# Altium footprint library charger.PcbLib: 22 footprints (part 2 of 2)
Each footprint in its own frame and in the unit in brackets; x right, y up, seen from the top. Pads: shape width x height; smd on the part's side, far side on the other; paste and mask are expansions set on the pad; w line width, h text height; cw(c..) or ccw(c..) is an arc to the next point about the centre after c.
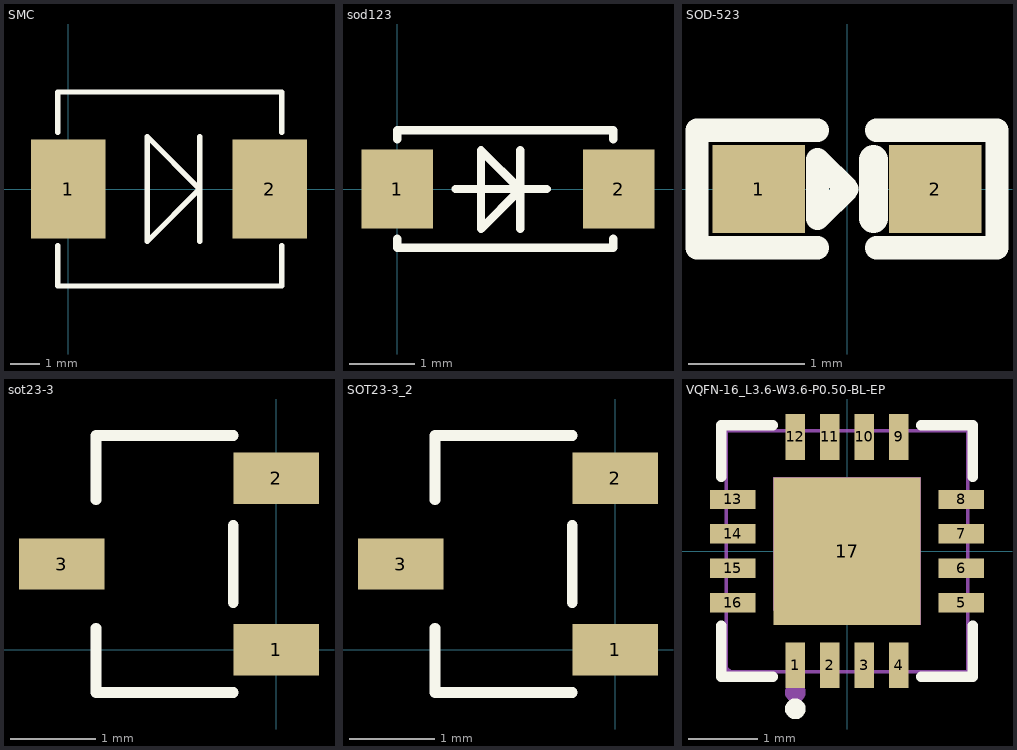
[diagram p1: the footprints below, top view; thin cyan lines are the x and y axes]

## SMC [mm]
pads (2):
  rect 2.5x3.3 smd: 1(0,0) 2(6.75,0)
Top Overlay:
  lines w0.178: -0.35,-1.9 -0.35,-3.25 7.15,-3.25 7.15,-1.9 ; -0.35,1.9 -0.35,3.25 7.15,3.25 7.15,1.9 ; 4.4,-1.75 4.4,1.75 ; 2.65,-1.75 2.65,1.75 4.4,0 2.65,-1.75

## sod123 [mm]
pads (2):
  rect 1.1x1.2 smd: 1(0,0) 2(3.385,0)
Top Overlay:
  lines w0.127: 0,-0.762 0,-0.9 3.302,-0.9 3.302,-0.762 ; 0,0.762 0,0.9 3.302,0.9 3.302,0.762 ; 0.889,0 2.286,0 ; 1.88,-0.61 1.88,0.59 ; 1.28,-0.61 1.28,0.59 1.88,-0.01 1.28,-0.61

## SOD-523 [mil]
height 104.33
pads (2):
  rect 31.5x30 smd: 1(-30,0) 2(30,0)
Top Overlay:
  lines w7.87: -51,-20 -51,20 ; -50,-20 -10,-20 ; -50,20 -10,20 ; 10,-20 50,-20 ; 10,20 50,20 ; 51,-20 51,20 ; -10,-10 -10,10 0,0 -10,-10
  lines w10: 9,-10 9,10
3D body "SOD-523.STEP": height 25.59, standoff 0, extent -31.49,-15.75 31.5,15.75

## sot23-3 [mm]
pads (3):
  rect 1x0.6 smd: 1(0,0) 2(0,2) 3(-2.5,1)
Top Overlay:
  lines w0.127: -2.1,0.25 -2.1,-0.5 -0.5,-0.5 ; -2.1,1.75 -2.1,2.5 -0.5,2.5 ; -0.5,0.55 -0.5,1.45

## SOT23-3_2 [mm]
pads (3):
  rect 1x0.6 smd: 1(0,0) 2(0,2) 3(-2.5,1)
Top Overlay:
  lines w0.127: -2.1,0.25 -2.1,-0.5 -0.5,-0.5 ; -2.1,1.75 -2.1,2.5 -0.5,2.5 ; -0.5,0.55 -0.5,1.45

## VQFN-16_L3.6-W3.6-P0.50-BL-EP [mm]
pads (17):
  rect 0.28x0.665 smd: 1(-0.75,-1.658) 2(-0.25,-1.658) 3(0.25,-1.658) 4(0.75,-1.658) 9(0.75,1.658) 10(0.25,1.658) 11(-0.25,1.658) 12(-0.75,1.658)
  rect 0.665x0.28 smd: 5(1.658,-0.75) 6(1.658,-0.25) 7(1.658,0.25) 8(1.658,0.75) 13(-1.658,0.75) 14(-1.658,0.25) 15(-1.658,-0.25) 16(-1.658,-0.75)
  rect 2.14x2.14 smd: 17(0,0)
Top Overlay:
  circle w0.15: c-0.75,-2.29 r0.075
  lines w0.152: -1.826,-1.08 -1.826,-1.826 -1.08,-1.826 ; -1.826,1.08 -1.826,1.826 -1.08,1.826 ; 1.08,-1.826 1.826,-1.826 1.826,-1.08 ; 1.08,1.826 1.826,1.826 1.826,1.08
Mechanical 6:
  circle w0.15: c-0.75,-2.05 r0.075
Mechanical 15:
  region: -1.07,-0.856 -1.07,1.07 1.07,1.07 1.07,-1.07 -0.856,-1.07
  region: -1.35,-0.87 -1.35,-0.63 -1.75,-0.63 -1.75,-0.87
  region: -1.35,-0.37 -1.35,-0.13 -1.75,-0.13 -1.75,-0.37
  region: -1.35,0.13 -1.35,0.37 -1.75,0.37 -1.75,0.13
  region: -1.35,0.63 -1.35,0.87 -1.75,0.87 -1.75,0.63
  region: -0.87,1.75 -0.87,1.35 -0.63,1.35 -0.63,1.75
  region: -0.37,1.75 -0.37,1.35 -0.13,1.35 -0.13,1.75
  region: 0.13,1.75 0.13,1.35 0.37,1.35 0.37,1.75
  region: 0.63,1.75 0.63,1.35 0.87,1.35 0.87,1.75
  region: 1.35,0.63 1.35,0.87 1.75,0.87 1.75,0.63
  region: 1.35,0.13 1.35,0.37 1.75,0.37 1.75,0.13
  region: 1.35,-0.37 1.35,-0.13 1.75,-0.13 1.75,-0.37
  region: 1.35,-0.87 1.35,-0.63 1.75,-0.63 1.75,-0.87
  region: 0.63,-1.75 0.63,-1.35 0.87,-1.35 0.87,-1.75
  region: 0.13,-1.75 0.13,-1.35 0.37,-1.35 0.37,-1.75
  region: -0.37,-1.75 -0.37,-1.35 -0.13,-1.35 -0.13,-1.75
  region: -0.87,-1.75 -0.87,-1.35 -0.63,-1.35 -0.63,-1.75
  region: -1.69,-1.75 -1.69,-1.725 -1.725,-1.691 -1.775,-1.691 -1.81,-1.725 -1.81,-1.75 -1.81,-1.775 -1.775,-1.809 -1.725,-1.809 -1.69,-1.775 -1.69,-1.75
  lines w0.051: -1.75,-1.75 1.75,-1.75 1.75,1.75 -1.75,1.75 -1.75,-1.75